# EAGLE library part RJ45_WUERTH_7499121211 (library Public)
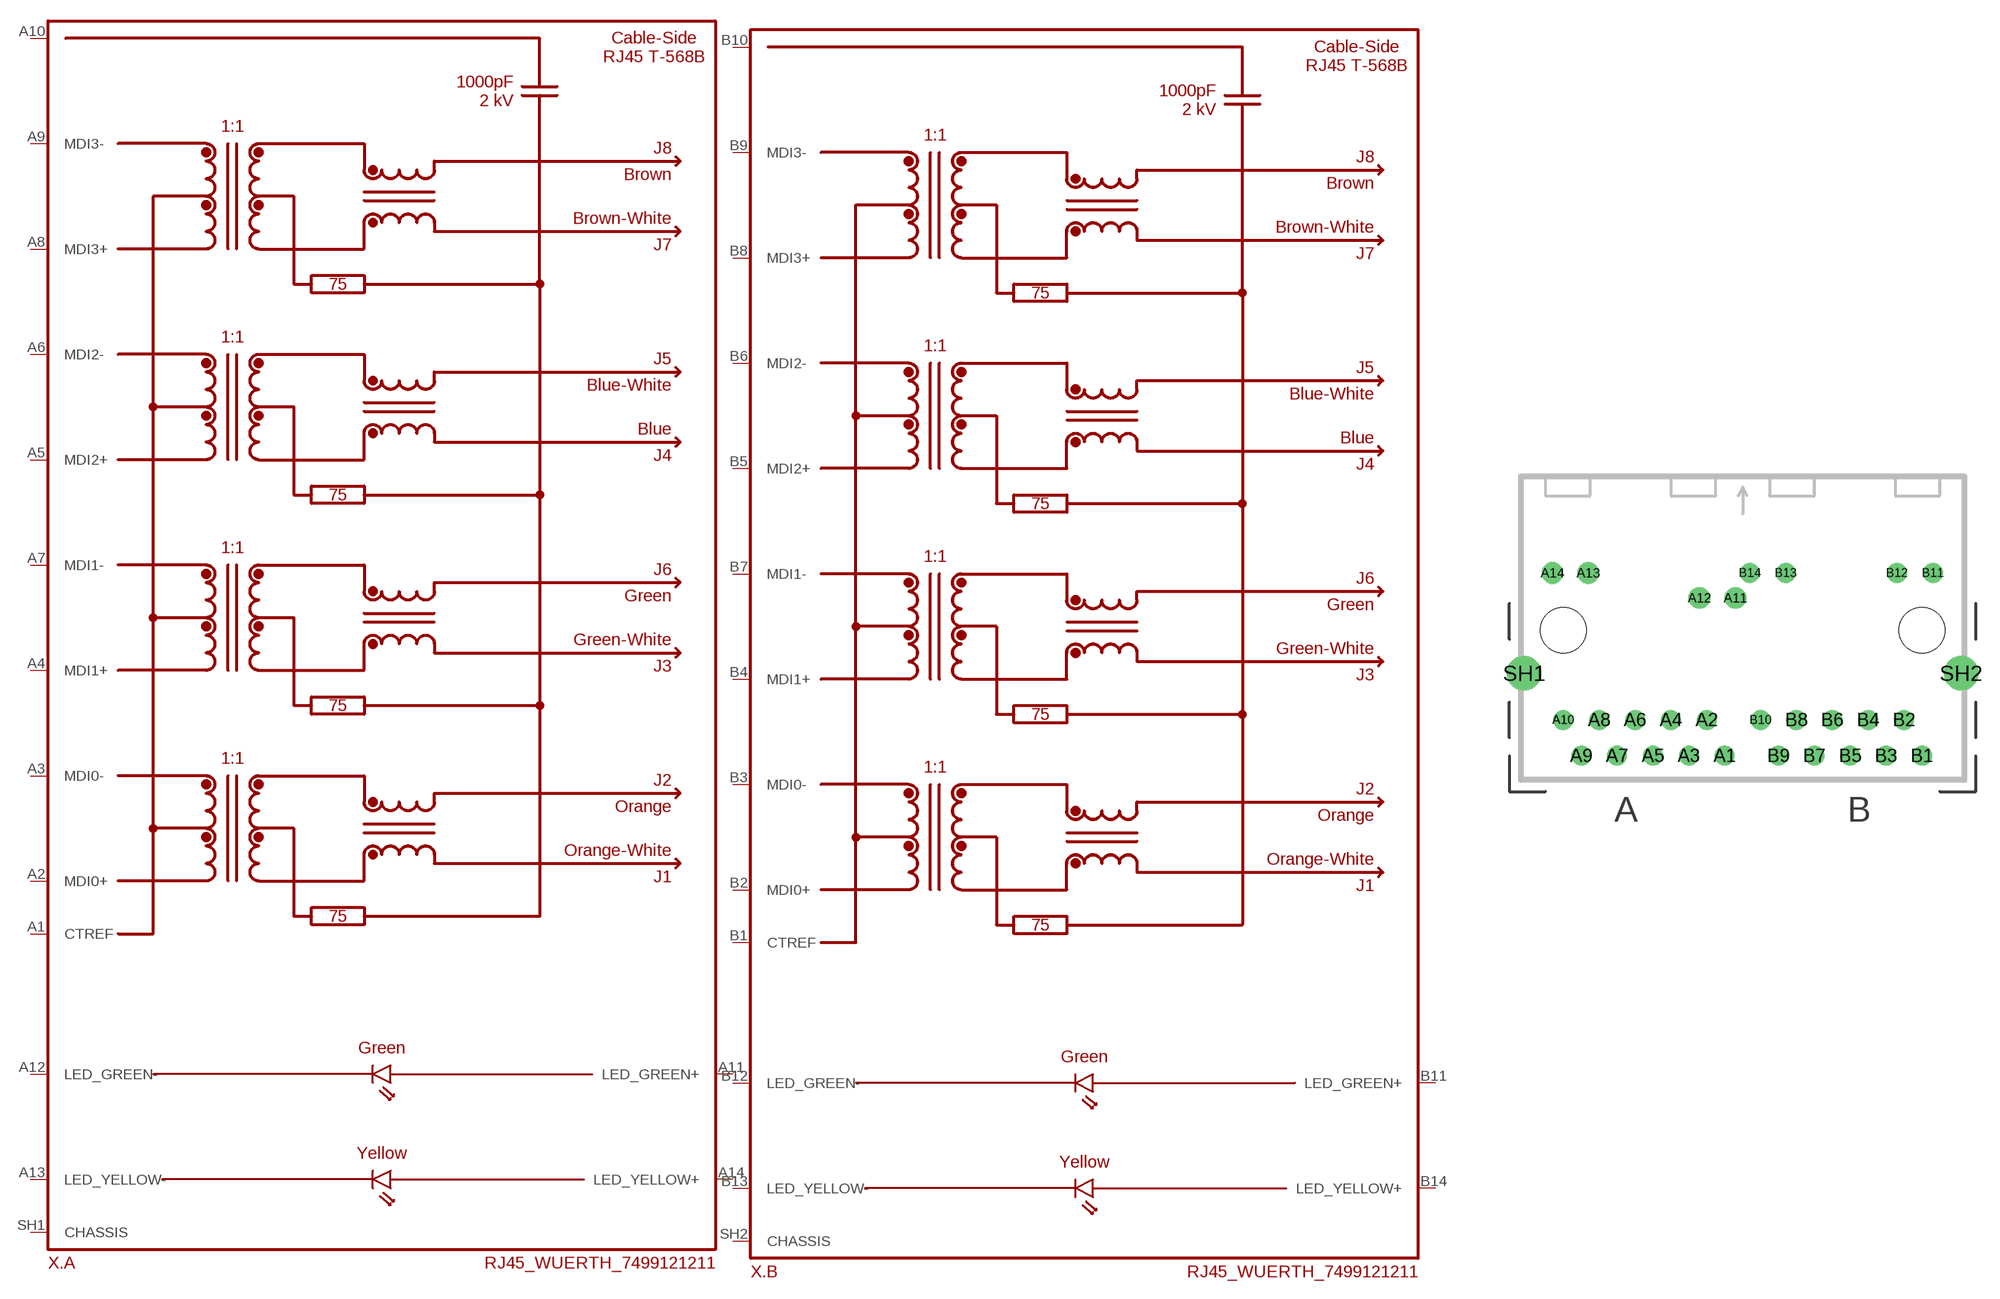
[diagram p117: symbol with the pads of RJ45_WUERTH_7499121211; footprint RJ45_WUERTH_7499121211]

Designator prefix X; gates .A=RJ45_WUERTH_7499121211 .B=RJ45_WUERTH_7499121211

## RJ45_WUERTH_7499121211  [RJ45_WUERTH_7499121211]
A1  .A:CTREF
A2  .A:MDI0+
A3  .A:MDI0-
A4  .A:MDI1+
A5  .A:MDI2+
A6  .A:MDI2-
A7  .A:MDI1-
A8  .A:MDI3+
A9  .A:MDI3-
A10  .A:10
A11  .A:LED_GREEN+
A12  .A:LED_GREEN-
A13  .A:LED_YELLOW-
A14  .A:LED_YELLOW+
B1  .B:CTREF
B2  .B:MDI0+
B3  .B:MDI0-
B4  .B:MDI1+
B5  .B:MDI2+
B6  .B:MDI2-
B7  .B:MDI1-
B8  .B:MDI3+
B9  .B:MDI3-
B10  .B:10
B11  .B:LED_GREEN+
B12  .B:LED_GREEN-
B13  .B:LED_YELLOW-
B14  .B:LED_YELLOW+
SH1  .A:CHASSIS
SH2  .B:CHASSIS

## Footprint RJ45_WUERTH_7499121211 (pad centres in mm)
drill 0.89: A1 -1.27,-8.89; A2 -2.54,-6.35; A3 -3.81,-8.89; A4 -5.08,-6.35; A5 -6.35,-8.89; A6 -7.62,-6.35; A7 -8.89,-8.89; A8 -10.16,-6.35; A9 -11.43,-8.89; A10 -12.7,-6.35; B1 12.7,-8.89; B2 11.43,-6.35; B3 10.16,-8.89; B4 8.89,-6.35; B5 7.62,-8.89; B6 6.35,-6.35; B7 5.08,-8.89; B8 3.81,-6.35; B9 2.54,-8.89; B10 1.27,-6.35; B11 13.47,4.06; B12 10.93,4.06; B13 3.05,4.06; B14 0.51,4.06
drill 1.02: A11 -0.51,2.29; A12 -3.05,2.29; A13 -10.93,4.06; A14 -13.47,4.06
drill 1.63: SH1 -15.465,-3.05; SH2 15.465,-3.05
hole 3.25 at -12.7,0
hole 3.25 at 12.7,0